# Altium schematic symbol library Bonuscooliosch.SchLib: 1 symbol
Pins are listed as number, name and electrical type; pins without a type are passive.

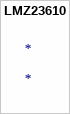
[diagram p0: symbol LMZ23610]

## LMZ23610
designator *